# Altium footprint library Components - 23.04.25 - 10.37.PcbLib: 1 footprints
Each footprint in its own frame and in the unit in brackets; x right, y up, seen from the top. Pads: shape width x height; smd on the part's side, far side on the other; paste and mask are expansions set on the pad; w line width, h text height; cw(c..) or ccw(c..) is an arc to the next point about the centre after c.
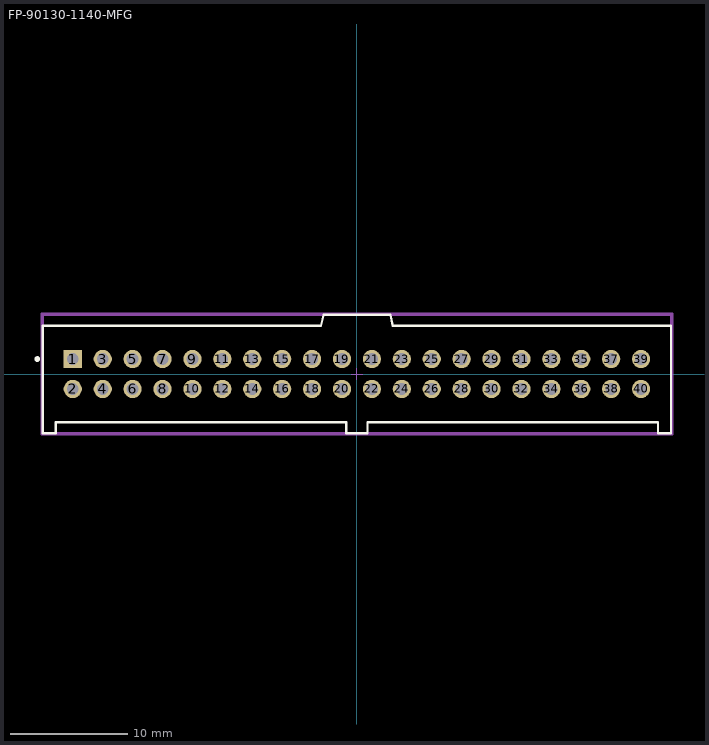
[diagram p0: the footprint, top view; thin cyan lines are the x and y axes]

## FP-90130-1140-MFG [mm]
pads (40):
  rect 1.55x1.55 hole 1 paste-2539.97 mask+0: 1(-24.13,1.27)
  round 1.55 hole 1 paste-2539.97 mask+0: 2(-24.13,-1.27) 3(-21.59,1.27) 4(-21.59,-1.27) 5(-19.05,1.27) 6(-19.05,-1.27) 7(-16.51,1.27) 8(-16.51,-1.27) 9(-13.97,1.27) 10(-13.97,-1.27) 11(-11.43,1.27) 12(-11.43,-1.27) 13(-8.89,1.27) 14(-8.89,-1.27) 15(-6.35,1.27) 16(-6.35,-1.27) 17(-3.81,1.27) 18(-3.81,-1.27) 19(-1.27,1.27) 20(-1.27,-1.27) 21(1.27,1.27) 22(1.27,-1.27) 23(3.81,1.27) 24(3.81,-1.27) 25(6.35,1.27) 26(6.35,-1.27) 27(8.89,1.27) 28(8.89,-1.27) 29(11.43,1.27) 30(11.43,-1.27) 31(13.97,1.27) 32(13.97,-1.27) 33(16.51,1.27) 34(16.51,-1.27) 35(19.05,1.27) 36(19.05,-1.27) 37(21.59,1.27) 38(21.59,-1.27) 39(24.13,1.27) 40(24.13,-1.27)
Top Overlay:
  circle w0.25: c-27.145,1.27 r0.125
  lines w0.2: -25.57,-5.025 -26.67,-5.025 -26.67,4.1 -3.053,4.1 -2.845,5.025 2.845,5.025 3.053,4.1 26.67,4.1 26.67,-5.025 25.57,-5.025 ; -25.565,-5.025 -25.565,-4.1 -0.9,-4.1 -0.9,-5.025 0.9,-5.025 0.9,-4.1 25.565,-4.1 25.565,-5.025
Top Assembly:
  lines w0.2: -26.77,-5.125 -26.77,5.125 26.77,5.125 26.77,-5.125 -26.77,-5.125
  text ".Designator" at 0,0.187 h1
Top 3D Body:
  lines w0.2: -26.67,-5.025 -26.67,5.025 26.67,5.025 26.67,-5.025 -26.67,-5.025
Top Courtyard:
  lines w0.2: -26.77,-5.125 -26.77,5.125 26.77,5.125 26.77,-5.125 -26.77,-5.125
Top Component Center:
  lines w0.1: -0.5,0 0.5,0 ; 0,-0.5 0,0.5
3D body "Conn_Molex_90130-1140_eec.STEP": height 0.25, standoff 0, extent -26.77,-5.125 26.77,5.125